# EAGLE library part SLG47105V (library GREENPAK)
SLG47105V
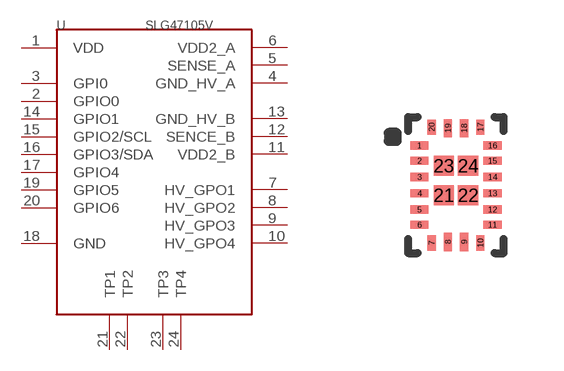
[diagram p51: symbol with the pads of STQFN-20-2.0X3.0-С; footprint STQFN-20-2.0X3.0-С]

Designator prefix -

## SLG47105V  [STQFN-20-2.0X3.0-С]
1  VDD  pwr
2  GPIO0
3  GPI0  in
4  GND_HV_A  pwr
5  SENSE_A  in
6  VDD2_A  pwr
7  HV_GPO1  out
8  HV_GPO2  out
9  HV_GPO3  out
10  HV_GPO4  out
11  VDD2_B  pwr
12  SENCE_B  in
13  GND_HV_B  pwr
14  GPIO1
15  GPIO2/SCL
16  GPIO3/SDA
17  GPIO4
18  GND  pwr
19  GPIO5
20  GPIO6
21  TP1  pas
22  TP2  pas
23  TP3  pas
24  TP4  pas

## Footprint STQFN-20-2.0X3.0-С (pad centres in mm)
smd 0.457 x 0.203: 1 -0.908,0.981; 2 -0.908,0.6; 3 -0.908,0.194; 4 -0.908,-0.213; 5 -0.908,-0.619; 6 -0.908,-1; 11 0.92,-1; 12 0.92,-0.619; 13 0.92,-0.213; 14 0.92,0.194; 15 0.92,0.6; 16 0.92,0.981
smd 0.203 x 0.381: 7 -0.604,-1.457; 10 0.616,-1.457; 17 0.616,1.438; 20 -0.604,1.438
smd 0.203 x 0.457: 8 -0.197,-1.432; 9 0.209,-1.432; 18 0.209,1.413; 19 -0.197,1.413
smd 0.508 x 0.508: 21 -0.299,-0.264; 22 0.311,-0.264; 23 -0.299,0.473; 24 0.311,0.473